# EAGLE library part 691413720003 (library Wuerth_Elektronik_eiCan_Terminal_Blocks_v2.0)
WR-TBL Serie 413 - 5.00mm Scewless 45° Entry - 3.0mm2 Wires, 3 Pin
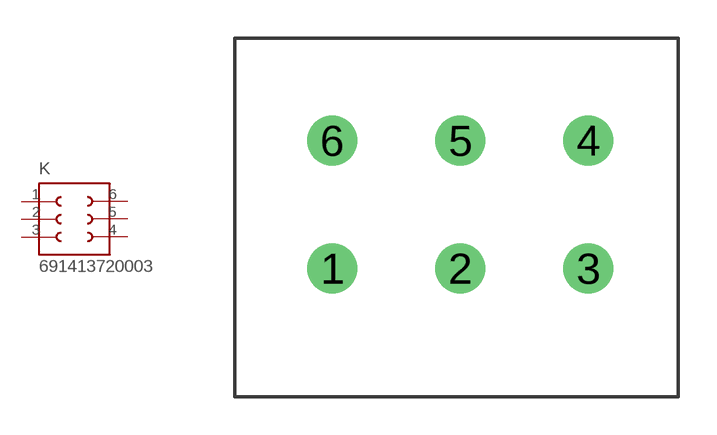
[diagram p2: symbol with the pads of 691413720003; footprint 691413720003]

Designator prefix K

## 691413720003  [691413720003]
1  1  pas
2  2  pas
3  3  pas
4  4  pas
5  5  pas
6  6  pas

## Footprint 691413720003 (pad centres in mm)
WR-TBL Serie 413 - 5.00mm Scewless 45° Entry - 3.0mm2 Wires, 3 Pin
drill 1.3 round: 1 -5,-2.5; 2 0,-2.5; 3 5,-2.5; 4 5,2.5; 5 0,2.5; 6 -5,2.5